# Altium footprint library RC_Car.PcbLib: 34 footprints (part 2 of 3)
Each footprint in its own frame and in the unit in brackets; x right, y up, seen from the top. Pads: shape width x height; smd on the part's side, far side on the other; paste and mask are expansions set on the pad; w line width, h text height; cw(c..) or ccw(c..) is an arc to the next point about the centre after c.
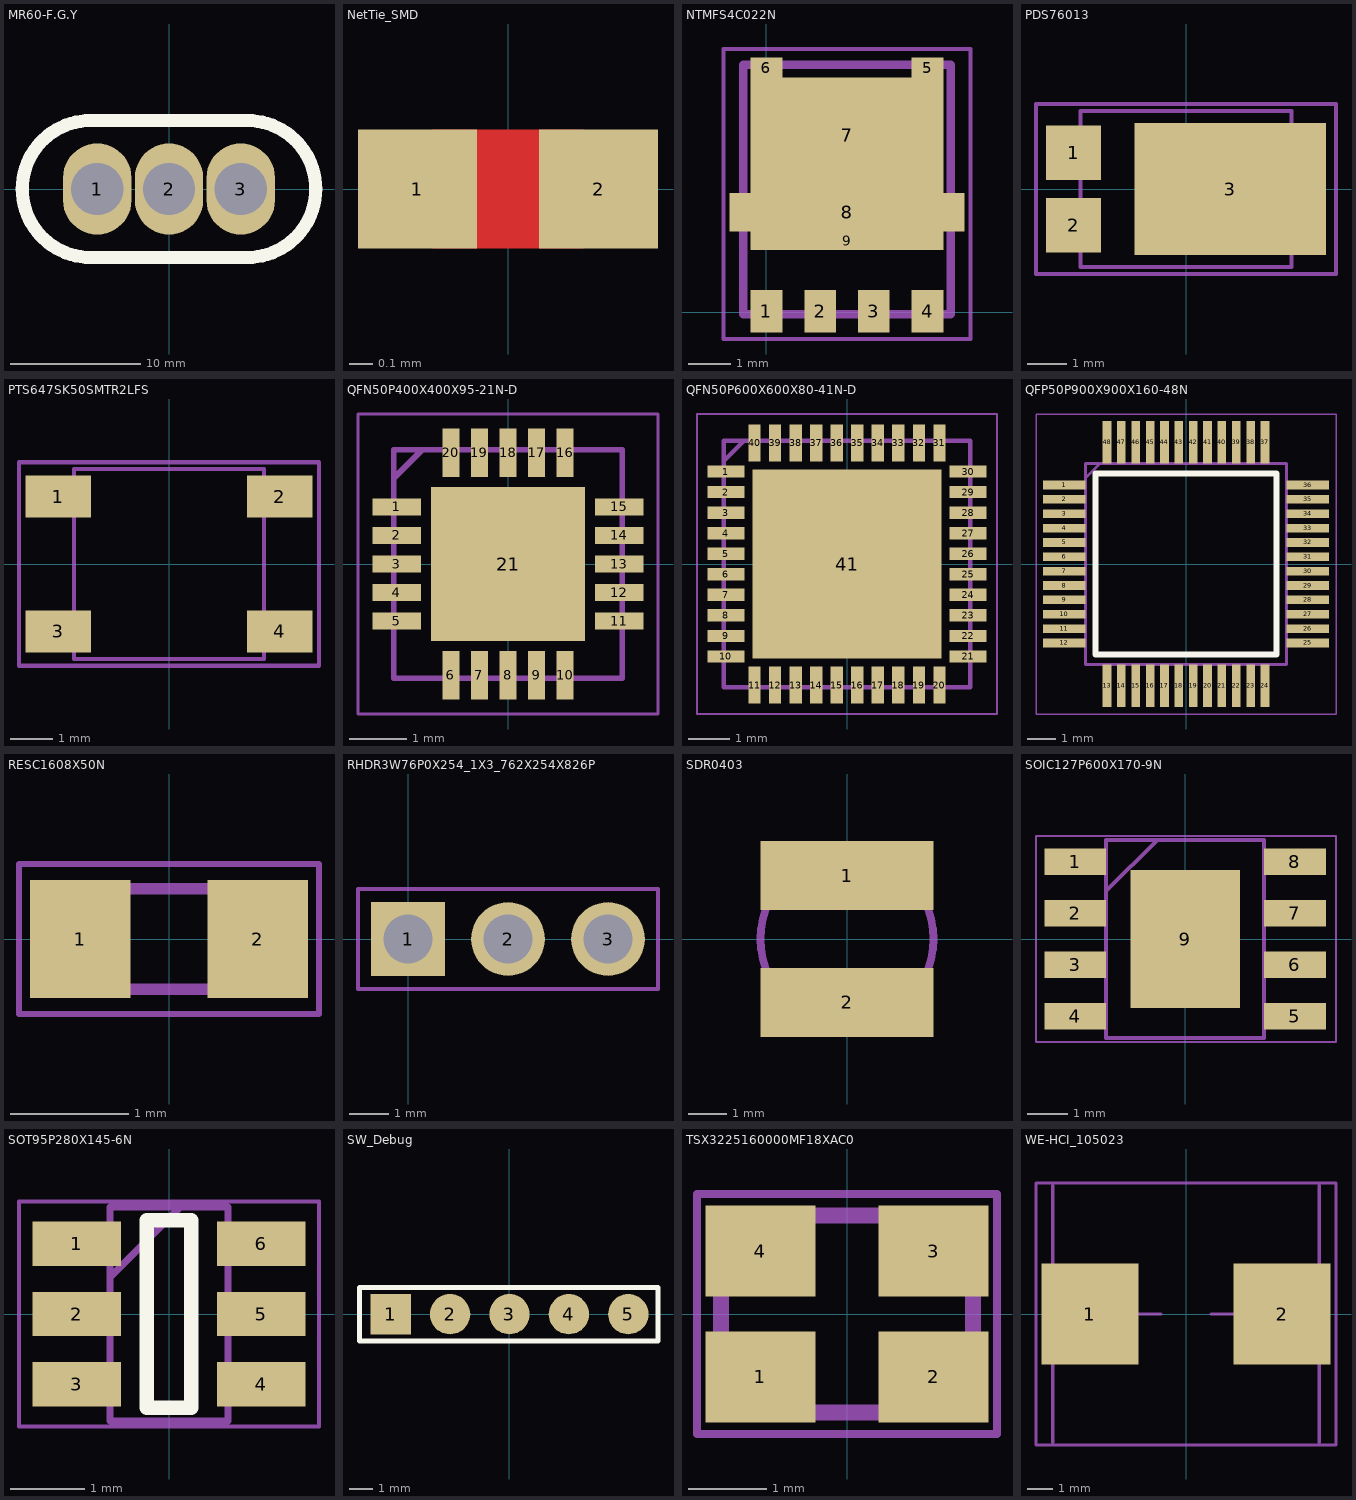
[diagram p1: the footprints below, top view; thin cyan lines are the x and y axes]

## MR60-F.G.Y [mm] "High Current Connector 3 Pin"
pads (3):
  oval 5.25x7 hole 4: 1(-5.5,0) 2(0,0)
  oval 5.24x7 hole 4: 3(5.5,0)
Top Overlay:
  lines w1: -6.127,-5.25 5.873,-5.25 ; -6,-5.25 cw(c-6,0) -6,5.25 6,5.25 cw(c6,0) 6,-5.25
Mechanical 15:
  lines w0.254: -6,-5.5 cw(c-6,0) -6,5.5 6,5.5 cw(c6,0) 6,-5.5 -6,-5.5
3D body "MR60-F.stp": height 13.2, standoff -4, extent -10.1,-4.6 10.1,4.6

## NetTie_SMD [mm]
pads (2):
  rect 0.5x0.5 smd mask-10: 1(-0.381,0) 2(0.381,0)
Top Layer:
  rectangle: -0.318,-0.25 0.318,0.25

## NTMFS4C022N [mm]
pads (9):
  rect 0.75x1 smd: 1(0,0.021) 2(1.27,0.021) 3(2.54,0.021) 4(3.81,0.021)
  rect 0.75x0.475 smd: 5(3.81,5.779) 6(0,5.779)
  rect 4.56x2.73 smd: 7(1.905,4.179)
  rect 5.55x0.91 smd: 8(1.905,2.36)
  rect 4.56x0.43 smd: 9(1.905,1.69)
Mechanical 13:
  lines w0.2: -0.545,-0.05 -0.545,5.85 4.355,5.85 4.355,-0.05 -0.545,-0.05
Mechanical 15:
  lines w0.1: -1.016,-0.635 -1.016,6.223 4.826,6.223 4.826,-0.635 -1.016,-0.635
3D body "NTMFS5C430NT1G.stp": height 1.1, standoff 0, extent -0.75,-0.37 4.55,5.93

## PDS76013 [mm]
pads (3):
  rect 1.4x1.39 smd: 1(-2.856,0.92) 2(-2.856,-0.92)
  rect 4.86x3.36 smd: 3(1.126,0)
Mechanical 13:
  lines w0.1: -2.685,-1.983 -2.685,1.983 2.685,1.983 2.685,-1.983 -2.685,-1.983
Mechanical 15:
  lines w0.1: -3.81,-2.159 -3.81,2.159 3.81,2.159 3.81,-2.159 -3.81,-2.159
3D body "PDS760-13.stp": height 1.05, standoff 0, extent -3.15,-1.95 3.25,1.95

## PTS647SK50SMTR2LFS [mm]
pads (4):
  rect 1.55x1 smd: 1(-2.625,1.6) 2(2.625,1.6) 3(-2.625,-1.6) 4(2.625,-1.6)
Mechanical 13:
  lines w0.1: -2.25,-2.25 -2.25,2.25 2.25,2.25 2.25,-2.25 -2.25,-2.25
Mechanical 15:
  lines w0.1: -3.556,-2.413 -3.556,2.413 3.556,2.413 3.556,-2.413 -3.556,-2.413
3D body "PTS647SM50SMTR2N_LFS.stp": height 5, standoff 0, extent -3.25,-2.25 3.25,2.25

## QFN50P400X400X95-21N-D [mm]
pads (21):
  rect 0.85x0.3 smd: 1(-1.95,1) 2(-1.95,0.5) 3(-1.95,0) 4(-1.95,-0.5) 5(-1.95,-1) 11(1.95,-1) 12(1.95,-0.5) 13(1.95,0) 14(1.95,0.5) 15(1.95,1)
  rect 0.3x0.85 smd: 6(-1,-1.95) 7(-0.5,-1.95) 8(0,-1.95) 9(0.5,-1.95) 10(1,-1.95) 16(1,1.95) 17(0.5,1.95) 18(0,1.95) 19(-0.5,1.95) 20(-1,1.95)
  rect 2.7x2.7 smd: 21(0,0)
Mechanical 13:
  lines w0.1: -2,1.5 -1.5,2 ; -2,-2 2,-2 2,2 -2,2 -2,-2
Mechanical 15:
  lines w0.05: -2.625,-2.625 2.625,-2.625 2.625,2.625 -2.625,2.625 -2.625,-2.625
3D body "NRF24L01P-R7.stp": height 0.95, standoff 0, extent -2.05,-2.05 2.05,2.05

## QFN50P600X600X80-41N-D [mm]
pads (41):
  rect 0.9x0.3 smd: 1(-2.95,2.25) 2(-2.95,1.75) 3(-2.95,1.25) 4(-2.95,0.75) 5(-2.95,0.25) 6(-2.95,-0.25) 7(-2.95,-0.75) 8(-2.95,-1.25) 9(-2.95,-1.75) 10(-2.95,-2.25) 21(2.95,-2.25) 22(2.95,-1.75) 23(2.95,-1.25) 24(2.95,-0.75) 25(2.95,-0.25) 26(2.95,0.25) 27(2.95,0.75) 28(2.95,1.25) 29(2.95,1.75) 30(2.95,2.25)
  rect 0.3x0.9 smd: 11(-2.25,-2.95) 12(-1.75,-2.95) 13(-1.25,-2.95) 14(-0.75,-2.95) 15(-0.25,-2.95) 16(0.25,-2.95) 17(0.75,-2.95) 18(1.25,-2.95) 19(1.75,-2.95) 20(2.25,-2.95) 31(2.25,2.95) 32(1.75,2.95) 33(1.25,2.95) 34(0.75,2.95) 35(0.25,2.95) 36(-0.25,2.95) 37(-0.75,2.95) 38(-1.25,2.95) 39(-1.75,2.95) 40(-2.25,2.95)
  rect 4.6x4.6 smd: 41(0,0)
Mechanical 13:
  lines w0.1: -3,2.5 -2.5,3 ; -3,-3 -3,3 3,3 3,-3 -3,-3
Mechanical 15:
  lines w0.05: -3.65,-3.65 -3.65,3.65 3.65,3.65 3.65,-3.65 -3.65,-3.65
3D body "DRV8323SRTAR.stp": height 0.8, standoff 0, extent -3.05,-3.05 3.05,3.05

## QFP50P900X900X160-48N [mm]
pads (48):
  rect 1.475x0.3 smd: 1(-4.238,2.75) 2(-4.238,2.25) 3(-4.238,1.75) 4(-4.238,1.25) 5(-4.238,0.75) 6(-4.238,0.25) 7(-4.238,-0.25) 8(-4.238,-0.75) 9(-4.238,-1.25) 10(-4.238,-1.75) 11(-4.238,-2.25) 12(-4.238,-2.75) 25(4.238,-2.75) 26(4.238,-2.25) 27(4.238,-1.75) 28(4.238,-1.25) 29(4.238,-0.75) 30(4.238,-0.25) 31(4.238,0.25) 32(4.238,0.75) 33(4.238,1.25) 34(4.238,1.75) 35(4.238,2.25) 36(4.238,2.75)
  rect 0.3x1.475 smd: 13(-2.75,-4.238) 14(-2.25,-4.238) 15(-1.75,-4.238) 16(-1.25,-4.238) 17(-0.75,-4.238) 18(-0.25,-4.238) 19(0.25,-4.238) 20(0.75,-4.238) 21(1.25,-4.238) 22(1.75,-4.238) 23(2.25,-4.238) 24(2.75,-4.238) 37(2.75,4.238) 38(2.25,4.238) 39(1.75,4.238) 40(1.25,4.238) 41(0.75,4.238) 42(0.25,4.238) 43(-0.25,4.238) 44(-0.75,4.238) 45(-1.25,4.238) 46(-1.75,4.238) 47(-2.25,4.238) 48(-2.75,4.238)
Top Overlay:
  lines w0.2: -3.15,-3.15 3.15,-3.15 3.15,3.15 -3.15,3.15 -3.15,-3.15
Mechanical 13:
  lines w0.1: -3.5,3 -3,3.5 ; -3.5,-3.5 3.5,-3.5 3.5,3.5 -3.5,3.5 -3.5,-3.5
Mechanical 15:
  lines w0.05: -5.225,-5.225 5.225,-5.225 5.225,5.225 -5.225,5.225 -5.225,-5.225
3D body "STM32G070CBT6TR.stp": height 1.6, standoff 0, extent -4.5,-4.5 4.5,4.5

## RESC1608X50N [mm]
pads (2):
  rect 0.85x1 smd: 1(-0.75,0) 2(0.75,0)
Mechanical 13:
  lines w0.1: -0.788,-0.425 0.788,-0.425 0.788,0.425 -0.788,0.425 -0.788,-0.425
Mechanical 15:
  lines w0.05: -1.27,-0.635 1.27,-0.635 1.27,0.635 -1.27,0.635 -1.27,-0.635
3D body "CRCW06034K70FKEC.stp": height 0.45, standoff 0, extent -0.77,-0.43 0.78,0.42

## RHDR3W76P0X254_1X3_762X254X826P [mm]
pads (3):
  rect 1.875x1.875 hole 1.25: 1(0,0)
  round 1.875 hole 1.25: 2(2.54,0) 3(5.08,0)
Mechanical 13:
  lines w0.1: -1.27,-1.27 -1.27,1.27 6.35,1.27 6.35,-1.27 -1.27,-1.27
Mechanical 15:
  lines w0.05: -1.27,-1.27 -1.27,1.27 6.35,1.27 6.35,-1.27 -1.27,-1.27
3D body "929850-01-03-RA.stp": height 8.26, standoff -3.18, extent -1.27,-1.27 6.35,1.27

## SDR0403 [mm]
pads (2):
  rect 4.5x1.8 smd: 1(0,1.65) 2(0,-1.65)
Mechanical 13:
  circle w0.2: c0,0 r2.25
3D body "SDR0403-4R7ML.stp": height 3.2, standoff 0, extent -2.25,-2.25 2.25,2.25

## SOIC127P600X170-9N [mm]
pads (9):
  rect 1.525x0.65 smd: 1(-2.712,1.905) 2(-2.712,0.635) 3(-2.712,-0.635) 4(-2.712,-1.905) 5(2.712,-1.905) 6(2.712,-0.635) 7(2.712,0.635) 8(2.712,1.905)
  rect 2.71x3.4 smd: 9(0,0)
Mechanical 13:
  lines w0.1: -1.95,1.18 -0.68,2.45 ; -1.95,-2.45 1.95,-2.45 1.95,2.45 -1.95,2.45 -1.95,-2.45
Mechanical 15:
  lines w0.05: -3.683,-2.54 3.725,-2.54 3.725,2.54 -3.683,2.54 -3.683,-2.54
3D body "LM22676QMRX-5.0_NOPB.stp": height 1.57, standoff 0, extent -3.014,-2.45 3.014,2.45

## SOT95P280X145-6N [mm]
pads (6):
  rect 1.2x0.6 smd: 1(-1.25,0.95) 2(-1.25,0) 3(-1.25,-0.95) 4(1.25,-0.95) 5(1.25,0) 6(1.25,0.95)
Top Overlay:
  lines w0.2: -0.3,-1.27 0.3,-1.27 0.3,1.27 -0.3,1.27 -0.3,-1.27
Mechanical 13:
  lines w0.1: -0.8,0.5 0.15,1.45 ; -0.8,-1.45 0.8,-1.45 0.8,1.45 -0.8,1.45 -0.8,-1.45
Mechanical 15:
  lines w0.05: -2.032,-1.524 2.032,-1.524 2.032,1.524 -2.032,1.524 -2.032,-1.524
3D body "LMR50410Y3FQDBVRQ1.stp": height 1.2, standoff 0, extent -1.4,-1.45 1.4,1.45

## SW_Debug [mm]
pads (5):
  rect 1.725x1.725 smd: 1(-5.08,0)
  round 1.725 smd: 2(-2.54,0) 3(0,0) 4(2.54,0) 5(5.08,0)
Top Overlay:
  lines w0.2: -6.415,-1.144 6.35,-1.144 6.35,1.143 -6.415,1.143 -6.415,-1.143
Mechanical 13:
  lines w0.1: 3.875,1.139 3.194,1.139 3.888,1.165
Mechanical 15:
  lines w0.05: -6.477,-1.143 -6.477,1.143 6.35,1.143 6.35,-1.143 -6.477,-1.143

## TSX3225160000MF18XAC0 [mm]
pads (4):
  rect 1.4x1.15 smd: 1(-1.1,-0.8) 2(1.1,-0.8) 3(1.1,0.8) 4(-1.1,0.8)
Mechanical 13:
  lines w0.2: -1.6,-1.25 1.6,-1.25 1.6,1.25 -1.6,1.25 -1.6,-1.25
Mechanical 15:
  lines w0.1: -1.905,-1.524 1.905,-1.524 1.905,1.524 -1.905,1.524 -1.905,-1.524
3D body "TSX-3225_16.0000MF18X-AC0.stp": height 0.6, standoff 0, extent -1.6,-1.24 1.6,1.26

## WE-HCI_105023 [mm]
pads (2):
  rect 3.85x4 smd: 1(-3.825,0) 2(3.825,0)
Mechanical 13:
  lines w0.127: -5.3,-5.1 -5.3,5.1 ; -3.5,0 -1,0 ; 1,0 3.5,0 ; 5.3,-5.1 5.3,5.1
Mechanical 15:
  lines w0.127: -5.969,-5.207 -5.969,5.207 5.969,5.207 5.969,-5.207 -5.969,-5.207
3D body "7443251600.stp": height 4.8, standoff 0, extent -5.2,-5.1 5.2,5.1